# Altium schematic symbol library CON2_NavLight_SingleLED.Schlib: 1 symbol
Pins are listed as number, name and electrical type; pins without a type are passive.

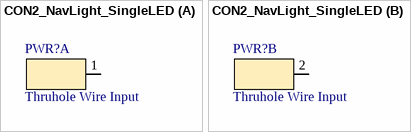
[diagram p0: symbol CON2_NavLight_SingleLED]

## CON2_NavLight_SingleLED
designator PWR?, comment Thruhole Wire Input
2-up 18awg wire thru-hole connection
part A pins: 1
part B pins: 2